# Altium schematic symbol library TRANS-EN-DGS.SCHLIB: 1 symbol
Pins are listed as number, name and electrical type; pins without a type are passive.

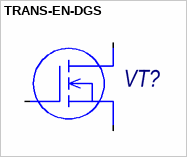
[diagram p0: symbol TRANS-EN-DGS]

## TRANS-EN-DGS
designator VT?
MOSFET
pins: 1 D, 2 G, 3 S